# Altium footprint library Isolated Gate Driver Bias Supply pcblib.PcbLib: 19 footprints (part 2 of 2)
Each footprint in its own frame and in the unit in brackets; x right, y up, seen from the top. Pads: shape width x height; smd on the part's side, far side on the other; paste and mask are expansions set on the pad; w line width, h text height; cw(c..) or ccw(c..) is an arc to the next point about the centre after c.
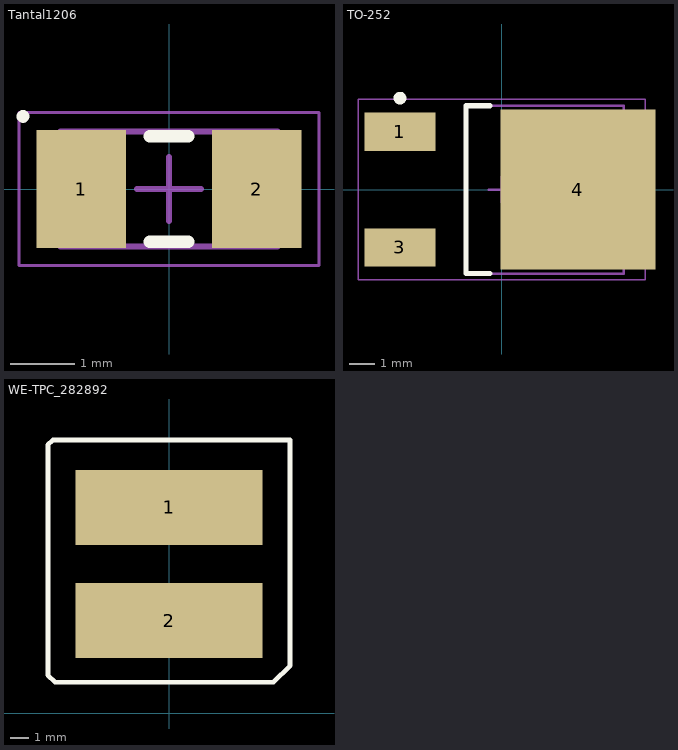
[diagram p1: the footprints below, top view; thin cyan lines are the x and y axes]

## Tantal1206 [mm]
height 1
pads (2):
  rect 1.4x1.85 smd: 1(-1.375,0) 2(1.375,0)
Top Overlay:
  circle w0.1: c-2.287,1.137 r0.05
  lines w0.2: -0.3,-0.825 0.3,-0.825 ; -0.3,0.825 0.3,0.825
Assembly Top:
  lines w0.1: -1.7,-0.9 1.7,-0.9 1.7,0.9 -1.7,0.9 -1.7,-0.9
Courtyard Top:
  lines w0.05: -2.35,-1.2 2.35,-1.2 2.35,1.2 -2.35,1.2 -2.35,-1.2
  lines w0.1: -0.5,0 0.5,0 ; 0,-0.5 0,0.5
3D body "User Library-CaseA_3216-18.step": height 1.61, standoff 0.01, extent -1.575,-0.8 1.625,0.8

## TO-252 [mm]
height 2.4
pads (3):
  rect 2.8x1.5 smd: 1(-4,2.275) 3(-4,-2.275)
  rect 6.1x6.3 smd: 4(3,0)
Top Overlay:
  circle w0.25: c-4,3.6 r0.125
  lines w0.2: -0.45,-3.3 -1.4,-3.3 -1.4,3.3 -0.45,3.3
Assembly Top:
  lines w0.1: -1.4,-3.3 -1.4,3.3 4.8,3.3 4.8,-3.3 -1.4,-3.3
Courtyard Top:
  lines w0.05: -5.65,-3.55 -5.65,3.55 5.65,3.55 5.65,-3.55 -5.65,-3.55
  lines w0.1: -0.5,0 0.5,0 ; 0,-0.5 0,0.5
3D body "User Library-DPAK_TO-252AA.step": height 2.41, standoff 0.01, extent -4.523,-3.367 5.577,3.367

## WE-TPC_282892 [mm]
pads (2):
  rect 10x4 smd: 1(0,11) 2(0,4.953)
Top Overlay:
  lines w0.254: -6.477,2.032 -6.096,1.651 5.588,1.651 6.477,2.54 6.477,13.843 6.477,14.605 -6.223,14.605 -6.477,14.351 -6.477,2.032
3D body "Inductor SMD 7850.stp": height 4.91, standoff -0.04, extent -4.333,4.061 2.667,11.687